# Altium schematic symbol library Pwr.SchLib: 6 symbols
Pins are listed as number, name and electrical type; pins without a type are passive.

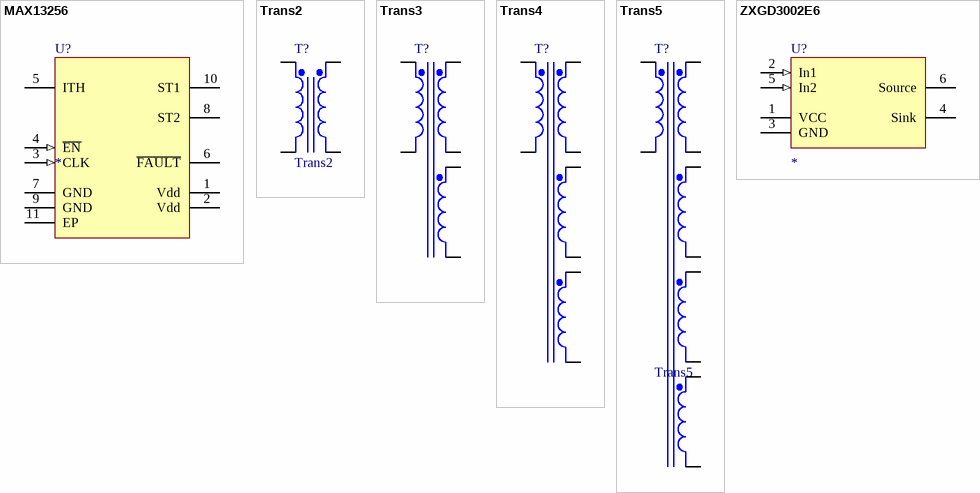
[diagram p0: symbols MAX13256 to ZXGD3002E6]

## MAX13256
designator U?
36V H-Bridge Transformer  Driver for Isolated Supplies
footprint TDFN10P300X300-10N (TDFN, 10-Leads, Body 3x3mm, Pitch 0,50mm, IPC Medium Density)
pins: 1 Vdd (power) "Power Supply.", 2 Vdd (power) "Power Supply.", 3 CLK (in) "Clock Input.", 4 ~{EN} (in) "Enable Input.", 5 ITH "Overcurrent Threshold Adjustment Input.", 6 ~{FAULT} (oc) "Fault Open-Drain Output.", 7 GND (power) "Ground.", 8 ST2 "Transformer Drive Output 2", 9 GND (power) "Ground.", 10 ST1 "Transformer Drive Output 1", 11 EP (power) "Exposed Pad. Internally connected to GND."

## Trans2
designator T?
Transformer (Coupled Inductor Model); Published: 8-Jun-2000; LatestRevisionDate: 17-Jul-2002; LatestRevisionNote: Re-released for DXP Platform.; PackageReference: TRF_4; Publisher: Altium Limited
footprint TRF_4 (Transformer (Coupled Inductor Model); 4 Leads)
simulation model TRANSFORMER (Transformer)
pins: 1 Pri+, 2 Pri-, 3 Sec+, 4 Sec-

## Trans3
designator T?
Three-winding Transformer (Non-Ideal); Sim Note: Enter the turns ratios, Core loss resistance, Magnetising Reactance, Leakage Reactances and Resistances referred to the primary side into the parameter fields.; Published: 25-Jan-2001; LatestRevisionDate: 17-Jul-2002; LatestRevisionNote: Re-released for DXP Platform.; PackageReference: TRF_6; Publisher: Altium Limited
simulation model NI3WTRANS (Spice Subcircuit)
footprint Trans3(K20*10*7)
pins: 1 Pri+, 2 Pri-, 3 Sec1+, 4 Sec1-, 5 Sec2+, 6 Sec2-

## Trans4
designator T?
Four-winding Transformer (Non-Ideal); Sim Note: Enter the turns ratios, Core loss resistance, Magnetising Reactance, Leakage Reactances and Resistances referred to the primary side into the parameter fields.; Published: 25-Jan-2001; LatestRevisionDate: 17-Jul-2002; LatestRevisionNote: Re-released for DXP Platform.; PackageReference: TRF_8; Publisher: Altium Limited
footprint TRF_8 (Four-winding Transformer (Non-Ideal); 8 Leads)
simulation model NI4WTRANS (Spice Subcircuit)
pins: 1 Pri+, 2 Pri-, 3 Sec1+, 4 Sec1-, 5 Sec2+, 6 Sec2-, 7 Sec3+, 8 Sec3-

## Trans5
designator T?
Five-winding Transformer (Non-Ideal); Sim Note: Enter the turns ratios, Core loss resistance, Magnetising Reactance, Leakage Reactances and Resistances referred to the primary side into the parameter fields.; Published: 25-Jan-2001; LatestRevisionDate: 17-Jul-2002; LatestRevisionNote: Re-released for DXP Platform.; PackageReference: TRF_8; Publisher: Altium Limited
footprint Trans5(K28*16*9)
pins: 1 Pri+, 2 Pri-, 3 Sec1+, 4 Sec1-, 5 Sec2+, 6 Sec2-, 7 Sec3+, 8 Sec3-, 9 Sec4+, 10 Sec4-

## ZXGD3002E6
designator U?
9A(peak) Gate driver in SOT23-6
footprint SOT23-6&SOT26 (http://www.nxp.com/acrobat_download/packages/SOT457.pdf)
pins: 1 VCC (power), 2 In1 (in), 3 GND (power), 4 Sink "Output", 5 In2 (in), 6 Source "Output"